# Altium footprint library RAM_PcbLib.PcbLib: 8 footprints
Each footprint in its own frame and in the unit in brackets; x right, y up, seen from the top. Pads: shape width x height; smd on the part's side, far side on the other; paste and mask are expansions set on the pad; w line width, h text height; cw(c..) or ccw(c..) is an arc to the next point about the centre after c.
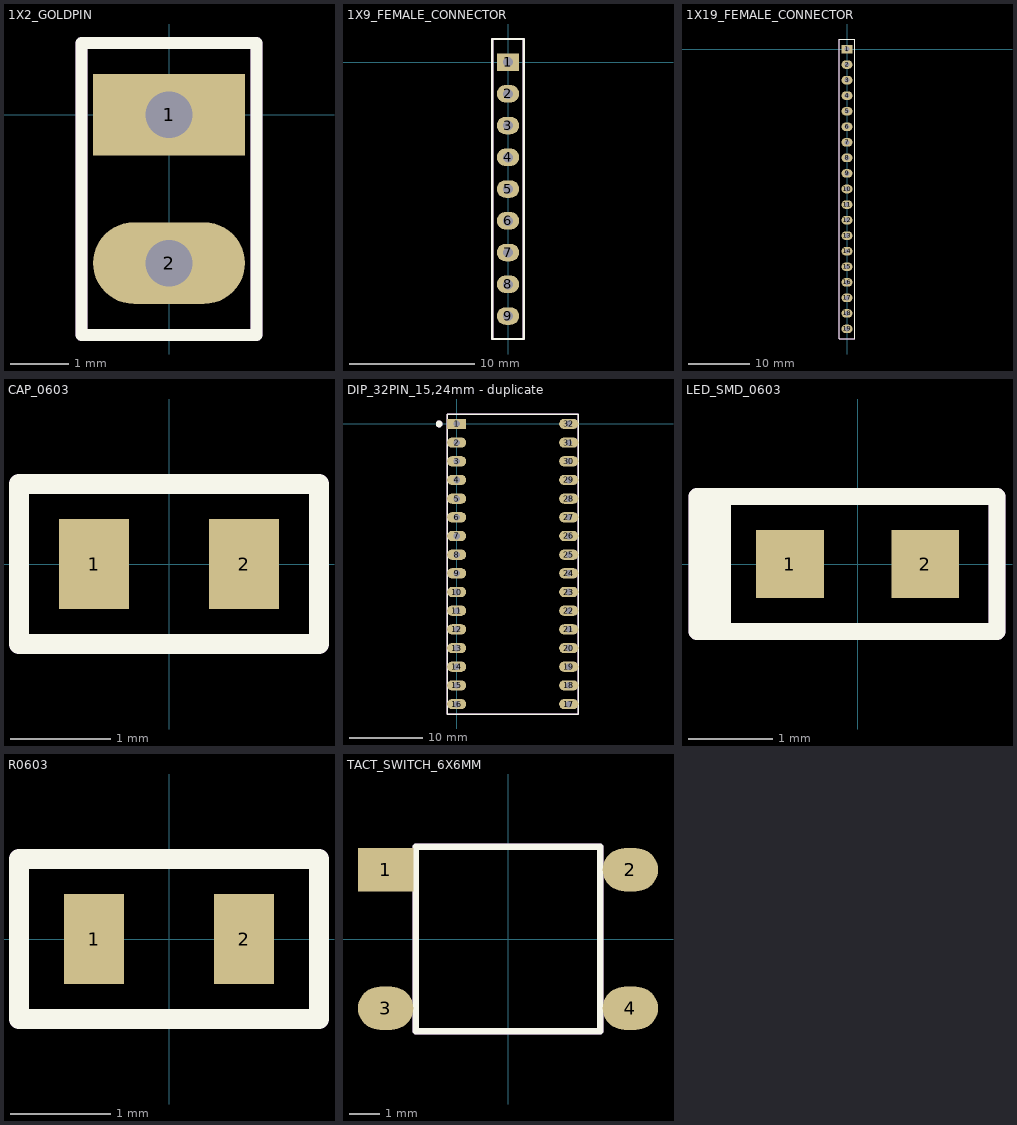
[diagram p0: the footprints below, top view; thin cyan lines are the x and y axes]

## 1X2_GOLDPIN [mm]
pads (2):
  rect 2.6x1.4 hole 0.8: 1(0,0)
  oval 2.6x1.4 hole 0.8: 2(0,-2.54)
Top Overlay:
  lines w0.2: -1.5,-3.77 -1.5,1.23 1.5,1.23 1.5,-3.77 -1.5,-3.77
Mechanical 29:
  lines w0.2: -1.5,-3.77 1.5,-3.77 1.5,1.23 -1.5,1.23 -1.5,-3.77
  text "'.Designator'" at 1.8,-1.8 h1.2
3D body "User Library-1x2 TH Pitch 2_54mm.step": height 9.51, standoff -3.19, extent -1.29,-3.81 1.25,1.27

## 1X9_FEMALE_CONNECTOR [mm]
pads (9):
  rect 1.8x1.4 hole 0.8: 1(0,0)
  oval 1.8x1.4 hole 0.8: 2(0,-2.54) 3(0,-5.08) 4(0,-7.62) 5(0,-10.16) 6(0,-12.7) 7(0,-15.24) 8(0,-17.78) 9(0,-20.32)
Top Overlay:
  lines w0.2: -1.25,-22.16 1.25,-22.16 1.25,1.84 -1.25,1.84 -1.25,-22.16
Mechanical 29:
  lines w0.2: -1.25,-22.16 -1.25,1.84 1.25,1.84 1.25,-22.16 -1.25,-22.16
  text "'.Designator'" at 1.6,-10.7 h1.2
3D body "User Library-CN_MM_1X9_180G.step": height 8.31, standoff -3.49, extent -1.25,-21.86 1.25,1.54

## 1X19_FEMALE_CONNECTOR [mm]
pads (19):
  rect 1.8x1.4 hole 0.8: 1(0,0)
  oval 1.8x1.4 hole 0.8: 2(0,-2.54) 3(0,-5.08) 4(0,-7.62) 5(0,-10.16) 6(0,-12.7) 7(0,-15.24) 8(0,-17.78) 9(0,-20.32) 10(0,-22.86) 11(0,-25.4) 12(0,-27.94) 13(0,-30.48) 14(0,-33.02) 15(0,-35.56) 16(0,-38.1) 17(0,-40.64) 18(0,-43.18) 19(0,-45.72)
Top Overlay:
  lines w0.2: -1.25,-47.36 1.25,-47.36 1.25,1.64 -1.25,1.64 -1.25,-47.36
Mechanical 29:
  lines w0.2: -1.25,-47.36 -1.25,1.64 1.25,1.64 1.25,-47.36 -1.25,-47.36
  text "'.Designator'" at 1.6,-23.6 h1.2
3D body "User Library-CN_MM_1X10_180G.step": height 8.31, standoff -3.49, extent -1.25,-24.4 1.25,1.54
3D body "User Library-CN_MM_1X9_180G.step": height 8.31, standoff -3.49, extent -1.25,-47.26 1.25,-23.86

## CAP_0603 [mm]
pads (2):
  rect 0.7x0.9 smd: 1(-0.75,0) 2(0.75,0)
Top Overlay:
  lines w0.2: -1.5,-0.8 1.5,-0.8 1.5,0.8 -1.5,0.8 -1.5,-0.8
Mechanical 29:
  lines w0.2: -1.5,-0.8 -1.5,0.8 1.5,0.8 1.5,-0.8 -1.5,-0.8
  text "'.Designator'" at 2,-0.7 h1.2
3D body "User Library-SMD CAPACITOR.step": height 0.81, standoff 0.01, extent -0.8,-0.4 0.8,0.4

## DIP_32PIN_15,24mm - duplicate [mm]
pads (32):
  rect 2.6x1.4 hole 0.9: 1(0,0)
  oval 2.6x1.4 hole 0.9: 2(0,-2.54) 3(0,-5.08) 4(0,-7.62) 5(0,-10.16) 6(0,-12.7) 7(0,-15.24) 8(0,-17.78) 9(0,-20.32) 10(0,-22.86) 11(0,-25.4) 12(0,-27.94) 13(0,-30.48) 14(0,-33.02) 15(0,-35.56) 16(0,-38.1) 17(15.24,-38.1) 18(15.24,-35.56) 19(15.24,-33.02) 20(15.24,-30.48) 21(15.24,-27.94) 22(15.24,-25.4) 23(15.24,-22.86) 24(15.24,-20.32) 25(15.24,-17.78) 26(15.24,-15.24) 27(15.24,-12.7) 28(15.24,-10.16) 29(15.24,-7.62) 30(15.24,-5.08) 31(15.24,-2.54) 32(15.24,0)
Top Overlay:
  circle w0.508: c-2.38,0 r0.203
  lines w0.2: -1.28,-39.45 -1.28,1.35 16.52,1.35 16.52,-39.45 -1.28,-39.45
Mechanical 29:
  circle w0.508: c-2.38,0 r0.203
  lines w0.2: -1.28,-39.45 16.52,-39.45 16.52,1.35 -1.28,1.35 -1.28,-39.45
  text "'.Designator'" at 17.12,-19.55 h1.2
3D body "User Library-DIP-32P-M01.step": height 5, standoff -3, extent -0.125,-39.25 15.365,1.15

## LED_SMD_0603 [mm]
pads (2):
  rect 0.8x0.8 smd: 1(-0.8,0) 2(0.8,0)
Top Overlay:
  rectangle: -1.9,-0.8 -1.5,0.8
  lines w0.2: -1.9,-0.8 -1.9,0.8 1.65,0.8 1.65,-0.8 -1.9,-0.8
Mechanical 29:
  rectangle: -1.9,-0.8 -1.5,0.8
  lines w0.2: -1.9,-0.8 1.65,-0.8 1.65,0.8 -1.9,0.8 -1.9,-0.8
  text "'.Designator'" at 1.9,-0.3 h0.7
3D body "User Library-SMD LED 0603.step": height 0.4, standoff 0.01, extent -0.8,-0.4 0.8,0.4

## R0603 [mm]
pads (2):
  rect 0.6x0.9 smd: 1(-0.75,0) 2(0.75,0)
Top Overlay:
  lines w0.2: -1.5,-0.8 -1.5,0.8 1.5,0.8 1.5,-0.8 -1.5,-0.8
Mechanical 29:
  lines w0.2: -1.5,-0.8 1.5,-0.8 1.5,0.8 -1.5,0.8 -1.5,-0.8
  text "'.Designator'" at 1.8,-0.4 h0.7
3D body "User Library-R-0603.step": height 0.57, standoff 0.01, extent -0.85,-0.4 0.85,0.4

## TACT_SWITCH_6X6MM [mm]
pads (4):
  rect 1.8x1.4 smd: 1(-3.975,2.25)
  oval 1.8x1.4 smd: 2(3.975,2.25) 3(-3.975,-2.25) 4(3.975,-2.25)
Top Overlay:
  lines w0.2: -3,-3 3,-3 3,3 -3,3 -3,-3
Mechanical 29:
  lines w0.2: -3,-3 -3,3 3,3 3,-3 -3,-3
  text "'.Designator'" at 3.4,-0.4 h1.2
3D body "User Library-PTS645SL43SMTR92-LFS.STEP": height 4.3, standoff 0, extent -4.5,-3 4.5,3